# Altium footprint library QFN50P400X350X100-17N.PcbLib: 1 footprints
Each footprint in its own frame and in the unit in brackets; x right, y up, seen from the top. Pads: shape width x height; smd on the part's side, far side on the other; paste and mask are expansions set on the pad; w line width, h text height; cw(c..) or ccw(c..) is an arc to the next point about the centre after c.
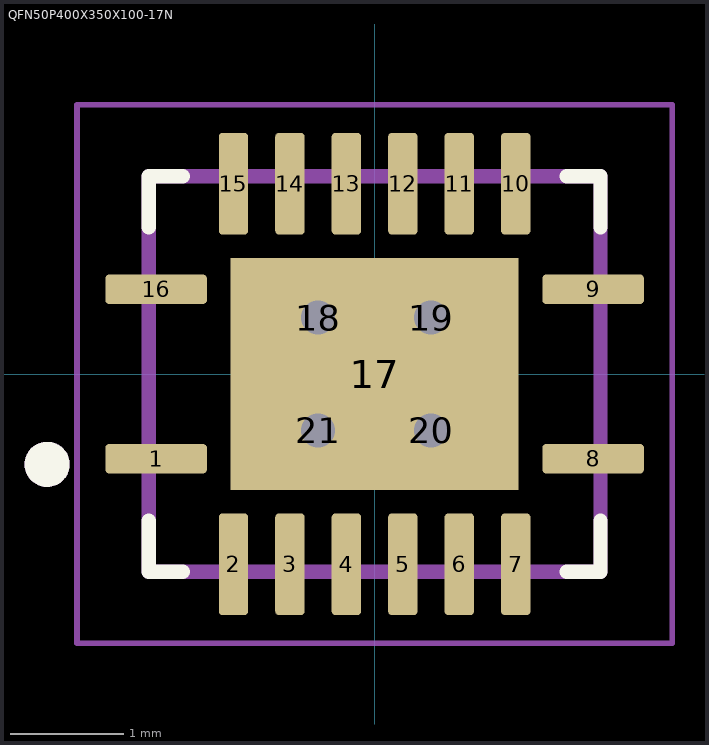
[diagram p0: the footprint, top view; thin cyan lines are the x and y axes]

## QFN50P400X350X100-17N [mm]
pads (21):
  rrect25% 0.9x0.26 smd: 1(-1.935,-0.75) 8(1.935,-0.75) 9(1.935,0.75) 16(-1.935,0.75)
  rrect25% 0.26x0.9 smd: 2(-1.25,-1.685) 3(-0.75,-1.685) 4(-0.25,-1.685) 5(0.25,-1.685) 6(0.75,-1.685) 7(1.25,-1.685) 10(1.25,1.685) 11(0.75,1.685) 12(0.25,1.685) 13(-0.25,1.685) 14(-0.75,1.685) 15(-1.25,1.685)
  rect 2.55x2.05 smd paste-2: 17(0,0)
  round 0.5 hole 0.3 mask+0: 18(-0.5,0.5) 19(0.5,0.5) 20(0.5,-0.5) 21(-0.5,-0.5)
Top Overlay:
  circle w0.2: c-2.9,-0.8 r0.1
  lines w0.127: -2,-1.3 -2,-1.75 -1.7,-1.75 ; -2,1.3 -2,1.75 -1.7,1.75 ; 1.7,-1.75 2,-1.75 2,-1.3 ; 1.7,1.75 2,1.75 2,1.3
Top Paste:
  region: 0.65,-0.81 -0.65,-0.81 -0.65,0.81 0.65,0.81
Mechanical 13:
  circle w0.2: c-2.9,-0.8 r0.1
  lines w0.127: -2,-1.75 -2,1.75 2,1.75 2,-1.75 -2,-1.75
Mechanical 15:
  lines w0.05: -2.635,-2.385 -2.635,2.385 2.635,2.385 2.635,-2.385 -2.635,-2.385
3D body "74AVC4T245QRGYRQ1.step": height 1, standoff 0, extent -2,-1.75 2,1.75